# EAGLE library part AE55100AH-1590 (library saw-filters-narrowband)
ЦПАР.433561.100-03 Параметр Ед. изм. Нижняя частота Тип. значение Верхняя частота Центральная частота МГц - 1590 - Минимальное вносимое затухание дБ - Не более 6 - Частота среза по уровню -3 дБ МГц Не более 1565.68 - Не менее 1614.32 Частота среза по уровню -25 дБ МГц Не менее 1528 - Не более 1652 Неравномерность АЧХ дБ - Не более 3 - Групповое время задержки нс - - - Гарантированное затухание дБ - 25 - Температурный диапазон °C -55 22 +85 Материал подложки - - Ниобат лития 64 -
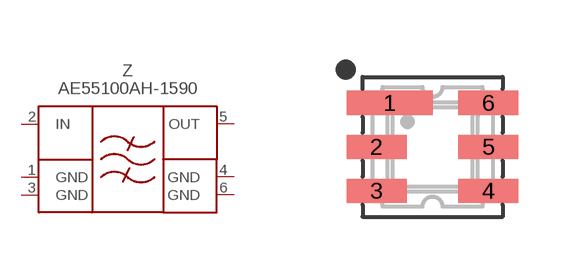
[diagram p8: symbol with the pads of DCC6; footprint DCC6]

Designator prefix Z

## AE55100AH-1590  [DCC6]
1  GND  pwr
2  IN  in
3  GND  pwr
4  GND  pwr
5  OUT  out
6  GND  pwr

## Footprint DCC6 (pad centres in mm)
smd 2.15 x 0.6: 1 -1.075,1.1
smd 1.5 x 0.6: 2 -1.4,0; 3 -1.4,-1.1; 4 1.4,-1.1; 5 1.4,0; 6 1.4,1.1